# Altium schematic symbol library AMRM00101040100MA1.SchLib: 2 symbols
Pins are listed as number, name and electrical type; pins without a type are passive.

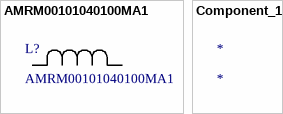
[diagram p0: symbols AMRM00101040100MA1 to Component_1]

## AMRM00101040100MA1
designator L?
No Description Available; Manufacturer_Name: Pulse Electronics Corporation; Type: Fixed Inductors; Copyright: Copyright (C) 2025 Ultra Librarian. All rights reserved.; Manufacturer_Part_Number: AMRM00101040100MA1
footprint IND_AMRM00101040_PUL
pins: 1, 2

## Component_1
designator *